# Altium schematic symbol library RT9080-33GJ5.SchLib: 1 symbol
Pins are listed as number, name and electrical type; pins without a type are passive.

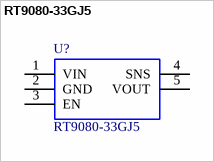
[diagram p0: symbol RT9080-33GJ5]

## RT9080-33GJ5
designator U?
TSOT-23-5 Linear Voltage Regulators (LDO) ROHS; Manufacturer: Richtek Tech; Mfr.Part #: RT9080-33GJ5; Package: TSOT-23-5; LCSC Part#: C841192; Datasheet: https://datasheet.lcsc.com/lcsc/2009192305_Richtek-Tech-RT9080-33GJ5_C841192.pdf; Packaging: Tape & Reel (TR)
footprint SOT94P280X100-5N
pins: 1 VIN, 2 GND, 3 EN, 4 SNS, 5 VOUT